# EAGLE library part TECHISCOOL_AMP_RJ45 (library Outline)
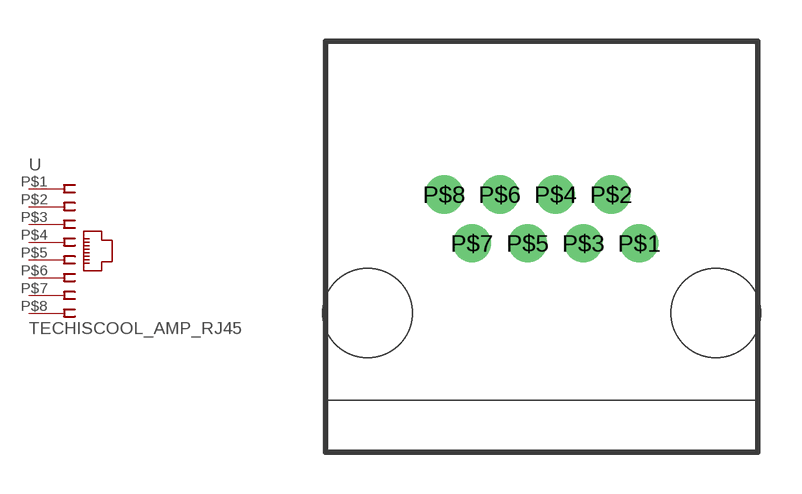
[diagram p2: symbol with the pads of TECHISCOOL_RJHSE5080; footprint TECHISCOOL_RJHSE5080]

Designator prefix -

## TECHISCOOL_AMP_RJ45  [TECHISCOOL_RJHSE5080]
P$1  1  pas
P$2  2  pas
P$3  3  pas
P$4  4  pas
P$5  5  pas
P$6  6  pas
P$7  7  pas
P$8  8  pas

## Footprint TECHISCOOL_RJHSE5080 (pad centres in mm)
drill 0.889: P$1 11.43,7.62; P$2 10.414,9.398; P$3 9.398,7.62; P$4 8.382,9.398; P$5 7.366,7.62; P$6 6.35,9.398; P$7 5.334,7.62; P$8 4.318,9.398
hole 3.251 at 14.224,5.08
hole 3.251 at 1.524,5.08